# Altium integrated library Library.IntLib: 629 symbols (part 6 of 21)
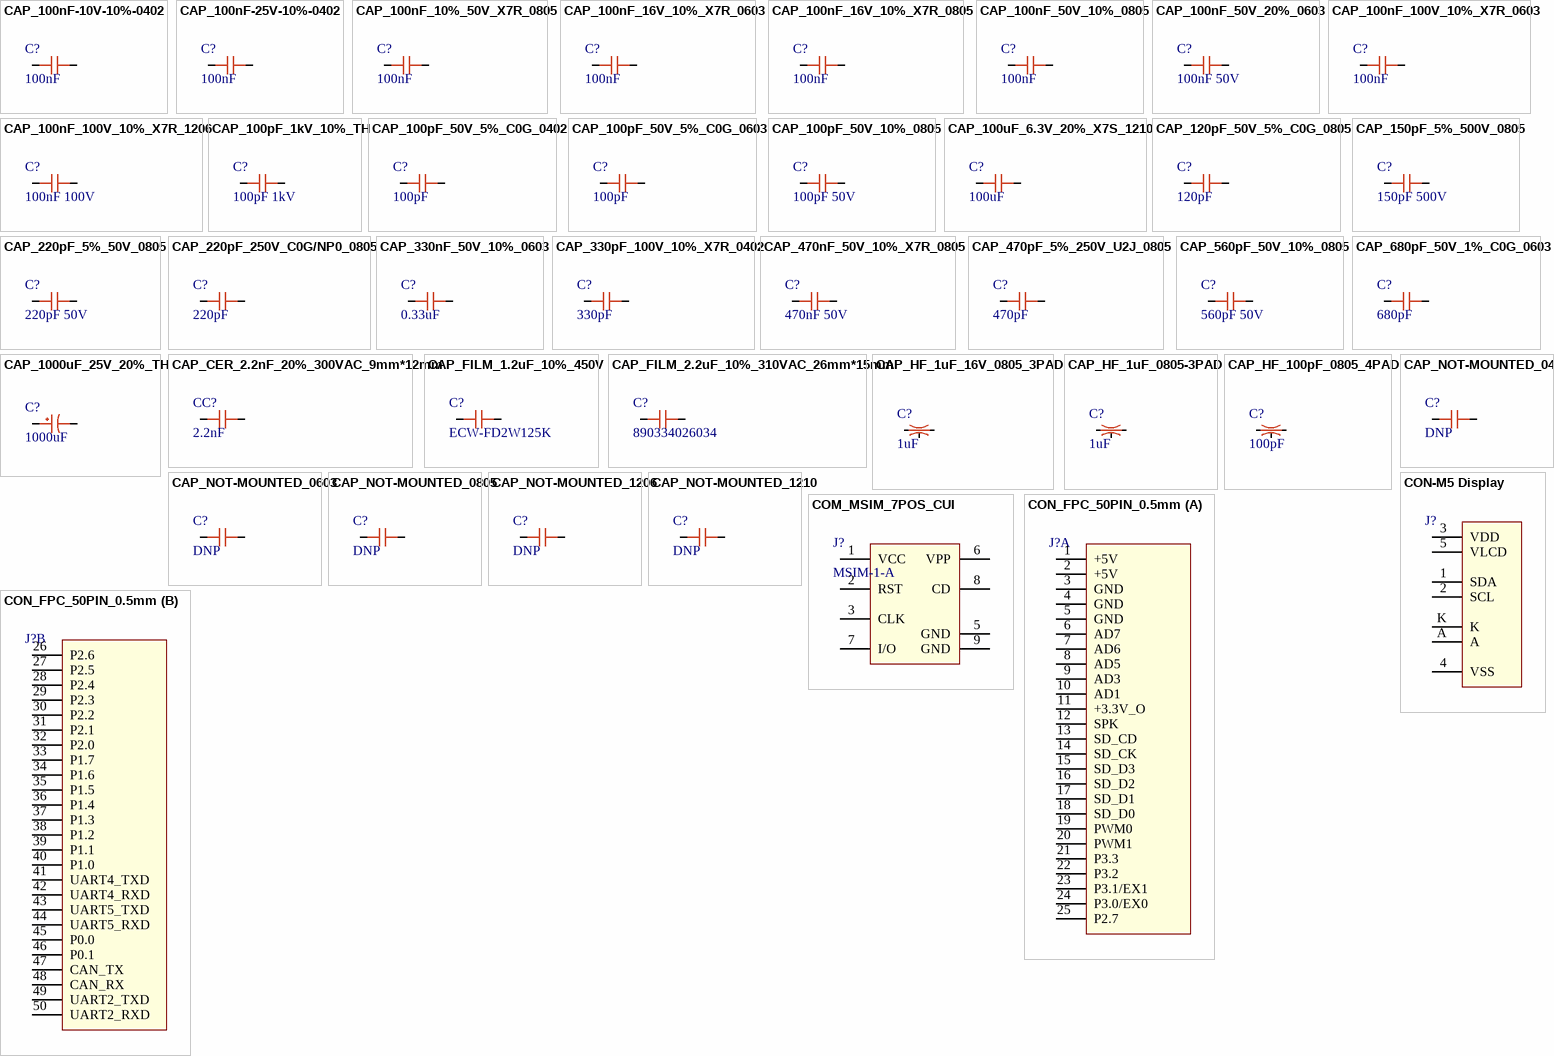
[diagram p23: symbols CAP_100nF-10V-10%-0402 to CON_FPC_50PIN_0.5mm]

## CAP_100pF_50V_5%_C0G_0402
designator C?, comment 100pF
Ceramic Capacitor, Multilayer, Ceramic, 50V, 5% +Tol, 5% -Tol, C0G, 30ppm/Cel TC, 0.0001uF, Surface Mount, 0402; Manufacturer: KEMET; Manufacturer Part Number: C0402C101J5GACTU; Multilayer: Yes; Supplier: Mouser; Supplier Part Number: 80-C0402C101J5G; RoHS: Yes; Category: Ceramic Capacitors; Stock: 496526; Pricing: 1=0.1, 10=0.014, 50=0.014, 100=0.008, 1000=0.006, 10000=0.004 (USD); Mounting Technology: Surface Mount; Pins: 2; Dielectric Material: Ceramic; Package Shape: Rectangular; Case/Package: 0402; Terminal Finish: Nickel; Min Operating Temperature: -55°C; Max Operating Temperature: 125°C; JESD-609 Code: e3; Value: 100pF; Capacitor Type: Ceramic; Tolerance  (fill in as +-): 5%; Package Style: SMTMeter; Packaging: Tape and Reel; Tolerance (fill in as +-): 5%; Rated DC Voltage (URdc): 50V; Temperature Characteristics Code: C0G; Termination: Wraparound; Length: 1mm; Width: 0.5mm; Height: 0.5mm; Reach SVHC Compliant: Yes; RoHS Compliant: Yes; ComponentLink1URL: https://datasheet.ciiva.com:443/pdfs/VipMasterIC/IC/KEME/KEME-S-A0007716602/KEME-S-A0007700906-1.pdf?src-supplier=IHS+Markit; ComponentLink1Description: https://datasheet.ciiva.com:443/pdfs/VipMasterIC/IC/KEME/KEME-S-A0007716602/KEME-S-A0007700906-1.pdf?src-supplier=IHS+Markit; ComponentLink2URL: https://datasheet.ciiva.com/144/docfinderpartnumber-c0402c101j5gactu-144103.pdf?src-supplier=Digikey; ComponentLink2Description: https://datasheet.ciiva.com/144/docfinderpartnumber-c0402c101j5gactu-144103.pdf?src-supplier=Digikey; ComponentLink3URL: https://datasheet.ciiva.com/11630/kem-c1003-c0g-smd-11630060.pdf?src-supplier=Avnet; ComponentLink3Description: https://datasheet.ciiva.com/11630/kem-c1003-c0g-smd-11630060.pdf?src-supplier=Avnet; ComponentLink4URL: https://datasheet.ciiva.com/26847/getdatasheetpartid-407344-26847338.pdf?src-supplier=Verical; ComponentLink4Description: https://datasheet.ciiva.com/26847/getdatasheetpartid-407344-26847338.pdf?src-supplier=Verical; ComponentLink5URL: https://datasheet.ciiva.com/7657/kem-c1003-c0g-smd-7657462.pdf?src-supplier=Element14; ComponentLink5Description: https://datasheet.ciiva.com/7657/kem-c1003-c0g-smd-7657462.pdf?src-supplier=Element14; ComponentLink6URL: https://datasheet.ciiva.com/7657/kem-c1003-c0g-smd-7657461.pdf?src-supplier=Element14; ComponentLink6Description: https://datasheet.ciiva.com/7657/kem-c1003-c0g-smd-7657461.pdf?src-supplier=Element14; ComponentLink7URL: https://datasheet.ciiva.com/28645/1789732-28645366.pdf?src-supplier=Element14; ComponentLink7Description: https://datasheet.ciiva.com/28645/1789732-28645366.pdf?src-supplier=Element14; ComponentLink8URL: https://datasheet.ciiva.com/14593/70095383-14593685.pdf?src-supplier=Allied+Electronics; ComponentLink8Description: https://datasheet.ciiva.com/14593/70095383-14593685.pdf?src-supplier=Allied+Electronics; ComponentLink9URL: https://datasheet.ciiva.com/5420/kem-c1003-c0g-smd-356956-5420997.pdf?src-supplier=Mouser; ComponentLink9Description: https://datasheet.ciiva.com/5420/kem-c1003-c0g-smd-356956-5420997.pdf?src-supplier=Mouser; ComponentLink10URL: https://datasheet.ciiva.com/14586/70095383-14586666.pdf?src-supplier=Allied+Electronics; ComponentLink10Description: https://datasheet.ciiva.com/14586/70095383-14586666.pdf?src-supplier=Allied+Electronics
footprint CAP_0402
pins: 1, 2

## CAP_100pF_50V_5%_C0G_0603
designator C?, comment 100pF
Ceramic Capacitor, Multilayer, Ceramic, 50V, 5% +Tol, 5% -Tol, C0G, 30ppm/Cel TC, 0.0001uF, Surface Mount, 0603; Manufacturer: KEMET; Manufacturer Part Number: C0603C101J5GACTU; Multilayer: Yes; Supplier: Digikey; Supplier Part Number: 399-C0603C101J5GAC7867CT-ND; RoHS: Yes; Category: Ceramic Capacitors; Stock: 200424; Pricing: 1=0.1, 10=0.073, 50=0.0418, 100=0.0325, 500=0.02442, 1000=0.01919 (USD); Mounting Technology: Surface Mount; Pins: 2; Dielectric Material: Ceramic; Package Shape: Rectangular; Case/Package: 0603; Terminal Finish: Nickel; Min Operating Temperature: -55°C; Max Operating Temperature: 125°C; JESD-609 Code: e3; Value: 100pF; Capacitor Type: Ceramic; Tolerance  (fill in as +-): 5%; Package Style: SMTMeter; Packaging: Tape and Reel; Tolerance (fill in as +-): 5%; Rated DC Voltage (URdc): 50V; Temperature Characteristics Code: C0G; Termination: Wraparound; Length: 1.6mm; Width: 0.8mm; Height: 0.8mm; Reach SVHC Compliant: Yes; RoHS Compliant: Yes; ComponentLink1URL: https://datasheet.ciiva.com:443/pdfs/VipMasterIC/IC/KEME/KEME-S-A0005605168/KEME-S-A0005605168-1.pdf?src-supplier=IHS+Markit; ComponentLink1Description: https://datasheet.ciiva.com:443/pdfs/VipMasterIC/IC/KEME/KEME-S-A0005605168/KEME-S-A0005605168-1.pdf?src-supplier=IHS+Markit; ComponentLink2URL: https://www.distrelec.biz/Web/Downloads/_t/ds/KEM_C1003_C0G_SMD_eng_tds.pdf?mime=application%2Fpdf&src-supplier=Distrelec; ComponentLink2Description: https://www.distrelec.biz/Web/Downloads/_t/ds/KEM_C1003_C0G_SMD_eng_tds.pdf?mime=application%2Fpdf&src-supplier=Distrelec; ComponentLink3URL: http://www.farnell.com/datasheets/2740958.pdf?src-supplier=Farnell; ComponentLink3Description: http://www.farnell.com/datasheets/2740958.pdf?src-supplier=Farnell; ComponentLink4URL: http://uk.rs-online.com/webdocs/1528/0900766b81528c98.pdf?src-supplier=Rs; ComponentLink4Description: http://uk.rs-online.com/webdocs/1528/0900766b81528c98.pdf?src-supplier=Rs
footprint CAP_0603
pins: 1, 2

## CAP_100pF_50V_10%_0805
designator C?, comment 100pF 50V
Ceramic Capacitor, Multilayer, Ceramic, 50V, 10% +Tol, 10% -Tol, C0G, -/+30ppm/Cel TC, 0.0001uF, Surface Mount, 0805; Manufacturer: KEMET; Manufacturer Part Number: C0805C101K5GACTU; Multilayer: Yes; Supplier: Mouser; Supplier Part Number: 80-C0805C101K5G; RoHS: Yes; Category: Ceramic Capacitors; Stock: 37552; Pricing: 1=0.1, 10=0.034, 50=0.034, 100=0.02, 1000=0.014, 10000=0.01 (USD); Mounting Technology: Surface Mount; Pins: 2; Dielectric Material: Ceramic; Package Shape: Rectangular; Case/Package: 0805; Terminal Finish: Nickel; Min Operating Temperature: -55°C; Max Operating Temperature: 125°C; JESD-609 Code: e3; Value: 100pF; Capacitor Type: Ceramic; Tolerance  (fill in as +-): 10%; Packaging: Tape and Reel; Tolerance (fill in as +-): 10%; Rated DC Voltage (URdc): 50V; Temperature Characteristics Code: C0G; Termination: Wraparound; Reach SVHC Compliant: Yes; RoHS Compliant: Yes; ComponentLink1URL: https://datasheet.ciiva.com:443/pdfs/VipMasterIC/IC/KEME/KEME-S-A0005985535/KEME-S-A0005985535-1.pdf?src-supplier=IHS+Markit; ComponentLink1Description: https://datasheet.ciiva.com:443/pdfs/VipMasterIC/IC/KEME/KEME-S-A0005985535/KEME-S-A0005985535-1.pdf?src-supplier=IHS+Markit; ComponentLink2URL: https://datasheet.ciiva.com/144/docfinderpartnumber-c0805c101k5gactu-144658.pdf?src-supplier=Digikey; ComponentLink2Description: https://datasheet.ciiva.com/144/docfinderpartnumber-c0805c101k5gactu-144658.pdf?src-supplier=Digikey; ComponentLink3URL: https://datasheet.ciiva.com/7842/kem-c1003-c0g-smd-7842517.pdf?src-supplier=Element14; ComponentLink3Description: https://datasheet.ciiva.com/7842/kem-c1003-c0g-smd-7842517.pdf?src-supplier=Element14; ComponentLink4URL: https://datasheet.ciiva.com/14589/70095383-14589565.pdf?src-supplier=Allied+Electronics; ComponentLink4Description: https://datasheet.ciiva.com/14589/70095383-14589565.pdf?src-supplier=Allied+Electronics; ComponentLink5URL: https://datasheet.ciiva.com/18444/70095383-18444347.pdf?src-supplier=Allied+Electronics; ComponentLink5Description: https://datasheet.ciiva.com/18444/70095383-18444347.pdf?src-supplier=Allied+Electronics
footprint CAP_0805
pins: 1, 2

## CAP_100uF_6.3V_20%_X7S_1210
designator C?, comment 100uF
Ceramic Capacitor, Multilayer, Ceramic, 6.3V, 20% +Tol, 20% -Tol, X7S, 22% TC, 100uF, Surface Mount, 1210; Manufacturer: Murata; Manufacturer Part Number: GRM32EC70J107ME15K; Supplier: Mouser; Supplier Part Number: 81-GRM32EC70J107ME5K; RoHS: No; Category: Ceramic Capacitors; Stock: 18465; Pricing: 1=0.61, 10=0.339, 50=0.339, 100=0.275, 1000=0.186, 10000=0.15 (USD); RoHS Compliant: Yes; ComponentLink1URL: https://datasheet.octopart.com/GRM32EC70J107ME15K-Murata-datasheet-149523525.pdf?src-supplier=Newark; ComponentLink1Description: https://datasheet.octopart.com/GRM32EC70J107ME15K-Murata-datasheet-149523525.pdf?src-supplier=Newark; ComponentLink2URL: https://datasheet.octopart.com/GRM32EC70J107ME15K-Murata-datasheet-165579666.pdf?src-supplier=TME; ComponentLink2Description: https://datasheet.octopart.com/GRM32EC70J107ME15K-Murata-datasheet-165579666.pdf?src-supplier=TME
footprint CAP_1210
pins: 1, 2

## CAP_120pF_50V_5%_C0G_0805
designator C?, comment 120pF
Ceramic Capacitor, Multilayer, Ceramic, 50V, 5% +Tol, 5% -Tol, C0G, 30ppm/Cel TC, 0.00012uF, Surface Mount, 0805; Manufacturer: KEMET; Manufacturer Part Number: C0805C121J5GACTU; Multilayer: Yes; Supplier: Farnell; Supplier Part Number: 1414667; RoHS: Yes; Category: Ceramic Capacitors; Stock: 9198; Pricing: 10=0.039, 100=0.024, 500=0.02, 1000=0.016, 2000=0.014 (EUR); Mounting Technology: Surface Mount; Pins: 2; Dielectric Material: Ceramic; Case/Package: 0805; Terminal Finish: Nickel; Package Shape: Rectangular; Min Operating Temperature: -55°C; Max Operating Temperature: 125°C; JESD-609 Code: e3; Value: 120pF; Capacitor Type: Ceramic; Tolerance  (fill in as +-): 5%; Package Style: SMTMeter; Packaging: Tape and Reel; Tolerance (fill in as +-): 5%; Rated DC Voltage (URdc): 50V; Temperature Characteristics Code: C0G; Termination: Wraparound; Length: 2mm; Width: 1.25mm; Height: 0.78mm; Reach SVHC Compliant: Yes; RoHS Compliant: Yes; ComponentLink1URL: https://datasheet.ciiva.com:443/pdfs/VipMasterIC/IC/KEME/KEME-S-A0005605168/KEME-S-A0005605168-1.pdf?src-supplier=IHS+Markit; ComponentLink1Description: https://datasheet.ciiva.com:443/pdfs/VipMasterIC/IC/KEME/KEME-S-A0005605168/KEME-S-A0005605168-1.pdf?src-supplier=IHS+Markit; ComponentLink2URL: https://datasheet.ciiva.com/7842/kem-c1003-c0g-smd-7842206.pdf?src-supplier=Element14; ComponentLink2Description: https://datasheet.ciiva.com/7842/kem-c1003-c0g-smd-7842206.pdf?src-supplier=Element14; ComponentLink3URL: https://datasheet.ciiva.com/7842/f9080b-0402-series-c0g-7842555.pdf?src-supplier=Element14; ComponentLink3Description: https://datasheet.ciiva.com/7842/f9080b-0402-series-c0g-7842555.pdf?src-supplier=Element14; ComponentLink4URL: https://datasheet.ciiva.com/7842/kem-c1003-c0g-smd-7842205.pdf?src-supplier=Element14; ComponentLink4Description: https://datasheet.ciiva.com/7842/kem-c1003-c0g-smd-7842205.pdf?src-supplier=Element14; ComponentLink5URL: https://datasheet.ciiva.com/14589/70095383-14589453.pdf?src-supplier=Allied+Electronics; ComponentLink5Description: https://datasheet.ciiva.com/14589/70095383-14589453.pdf?src-supplier=Allied+Electronics; ComponentLink6URL: https://datasheet.ciiva.com/5412/kem-c1003-c0g-smd-5412953.pdf?src-supplier=Mouser; ComponentLink6Description: https://datasheet.ciiva.com/5412/kem-c1003-c0g-smd-5412953.pdf?src-supplier=Mouser
footprint CAP_0805
pins: 1, 2

## CAP_150pF_5%_500V_0805
designator C?, comment 150pF 500V
Ceramic Capacitor, Multilayer, Ceramic, 500V, 5% +Tol, 5% -Tol, C0G, 30ppm/Cel TC, 0.00015uF, Surface Mount, 0805; Manufacturer: Yageo; Manufacturer Part Number: CC0805JRNPOBBN151; Multilayer: Yes; Supplier: Digikey; Supplier Part Number: 311-4256-1-ND; RoHS: Yes; Category: Ceramic Capacitors; Stock: 18030; Pricing: 1=0.16, 10=0.109, 50=0.0652, 100=0.0513, 500=0.0379, 1000=0.03137 (USD); Mounting Technology: Surface Mount; Pins: 2; Dielectric Material: Ceramic; Package Shape: Rectangular; Case/Package: 0805; Terminal Finish: Nickel; Min Operating Temperature: -55°C; Max Operating Temperature: 125°C; JESD-609 Code: e3; Value: 150pF; Capacitor Type: Ceramic; Tolerance  (fill in as +-): 5%; Package Style: SMTMeter; Packaging: Tape and Reel; Tolerance (fill in as +-): 5%; Rated DC Voltage (URdc): 500V; Temperature Characteristics Code: C0G; Termination: Wraparound; Length: 2mm; Width: 1.25mm; Height: 0.6mm; Reach SVHC Compliant: Yes; RoHS Compliant: Yes; ComponentLink1URL: https://datasheet.ciiva.com:443/pdfs/VipMasterIC/IC/YAGO/YAGO-S-A0003556389/YAGO-S-A0003556389-1.pdf?src-supplier=IHS+Markit; ComponentLink1Description: https://datasheet.ciiva.com:443/pdfs/VipMasterIC/IC/YAGO/YAGO-S-A0003556389/YAGO-S-A0003556389-1.pdf?src-supplier=IHS+Markit; ComponentLink2URL: https://datasheet.ciiva.com/13264/upy-gp-np0-16v-to-50v-8-3714-13264636.pdf?src-supplier=Mouser; ComponentLink2Description: https://datasheet.ciiva.com/13264/upy-gp-np0-16v-to-50v-8-3714-13264636.pdf?src-supplier=Mouser; ComponentLink3URL: https://datasheet.ciiva.com/11587/upy-np0x7r-mv-100-to-630v-9-11587199.pdf?src-supplier=Avnet; ComponentLink3Description: https://datasheet.ciiva.com/11587/upy-np0x7r-mv-100-to-630v-9-11587199.pdf?src-supplier=Avnet
footprint CAP_0805
pins: 1, 2

## CAP_220pF_5%_50V_0805
designator C?, comment 220pF 50V
Ceramic Capacitor, Multilayer, Ceramic, 50V, 5% +Tol, 5% -Tol, C0G, 30ppm/Cel TC, 0.00022uF, Surface Mount, 0805; Manufacturer: Yageo; Manufacturer Part Number: CC0805JRNPO9BN221; Multilayer: Yes; Supplier: Rs; Supplier Part Number: 1988037; RoHS: Yes; Category: Ceramic Capacitors; Stock: 4400; Pricing: 200=0.019, 1000=0.011, 2000=0.01 (EUR); Mounting Technology: Surface Mount; Pins: 2; Dielectric Material: Ceramic; Package Shape: Rectangular; Case/Package: 0805; Terminal Finish: Nickel; Min Operating Temperature: -55°C; Max Operating Temperature: 125°C; JESD-609 Code: e3; Value: 220pF; Capacitor Type: Ceramic; Tolerance  (fill in as +-): 5%; Package Style: SMTMeter; Packaging: Tape and Reel; Tolerance (fill in as +-): 5%; Rated DC Voltage (URdc): 50V; Temperature Characteristics Code: C0G; Termination: Wraparound; Length: 2mm; Width: 1.25mm; Height: 0.6mm; Reach SVHC Compliant: Yes; RoHS Compliant: Yes; ComponentLink1URL: https://datasheet.ciiva.com:443/pdfs/VipMasterIC/IC/YAGO/YAGO-S-A0009251638/YAGO-S-A0009251638-1.pdf?src-supplier=IHS+Markit; ComponentLink1Description: https://datasheet.ciiva.com:443/pdfs/VipMasterIC/IC/YAGO/YAGO-S-A0009251638/YAGO-S-A0009251638-1.pdf?src-supplier=IHS+Markit; ComponentLink2URL: https://datasheet.ciiva.com/11464/upy-gp-np0-16v-to-50v-8-11464746.pdf?src-supplier=Avnet; ComponentLink2Description: https://datasheet.ciiva.com/11464/upy-gp-np0-16v-to-50v-8-11464746.pdf?src-supplier=Avnet; ComponentLink3URL: https://datasheet.ciiva.com/8033/1443161-8033935.pdf?src-supplier=Element14; ComponentLink3Description: https://datasheet.ciiva.com/8033/1443161-8033935.pdf?src-supplier=Element14; ComponentLink4URL: https://datasheet.ciiva.com/144/mlccorderingcode-144935.pdf?src-supplier=Digikey; ComponentLink4Description: https://datasheet.ciiva.com/144/mlccorderingcode-144935.pdf?src-supplier=Digikey; ComponentLink5URL: https://datasheet.ciiva.com/144/mlccorderingcode-144936.pdf?src-supplier=Digikey; ComponentLink5Description: https://datasheet.ciiva.com/144/mlccorderingcode-144936.pdf?src-supplier=Digikey; ComponentLink6URL: https://datasheet.ciiva.com/144/mlccorderingcode-144937.pdf?src-supplier=Digikey; ComponentLink6Description: https://datasheet.ciiva.com/144/mlccorderingcode-144937.pdf?src-supplier=Digikey
footprint CAP_0805
pins: 1, 2

## CAP_220pF_250V_C0G/NP0_0805
designator C?, comment 220pF
Cap Cer 220PF 250V C0G/NP0 0805; Manufacturer: Johanson; Manufacturer Part Number: QSCT251Q221J1GV001E; Supplier: Digikey; Supplier Part Number: 712-QSCT251Q221J1GV001ECT-ND; RoHS: No; Category: Ceramic Capacitors; Stock: 137812; Pricing: 1=0.47, 10=0.284, 100=0.1901, 1000=0.1412 (USD)
footprint RES_0805
pins: 1, 2

## CAP_330nF_50V_10%_0603
designator C?, comment 0.33uF
Ceramic Capacitor, Multilayer, Ceramic, 50V, 10% +Tol, 10% -Tol, X7R, 15% TC, 0.33uF, Surface Mount, 0603; Manufacturer: TDK; Manufacturer Part Number: CGA3E3X7R1H334K080AB; Value: 330nF; Multilayer: Yes; Reference Standard: AEC-Q200; Supplier: Farnell; Supplier Part Number: 3416368; RoHS: Yes; Category: Ceramic Capacitors; Stock: 64881; Pricing: 10=0.137, 100=0.0862, 500=0.0714, 1000=0.0566, 2000=0.0467, 4000=0.0367 (EUR); Mounting Technology: Surface Mount; Pins: 2; Dielectric Material: Ceramic; Package Shape: Rectangular; Case/Package: 0603; Terminal Finish: Nickel; Min Operating Temperature: -55°C; Max Operating Temperature: 125°C; JESD-609 Code: e3; Capacitor Type: Ceramic; Tolerance  (fill in as +-): 10%; Package Style: SMTMeter; Packaging: Tape and Reel; Tolerance (fill in as +-): 10%; Rated DC Voltage (URdc): 50V; Temperature Characteristics Code: X7R; Termination: Wraparound; Length: 1.6mm; Width: 0.8mm; Height: 0.8mm; Reach SVHC Compliant: Yes; RoHS Compliant: Yes; ComponentLink1URL: https://datasheet.ciiva.com:443/pdfs/VipMasterIC/IC/TDKC/TDKC-S-A0008953915/TDKC-S-A0008953915-1.pdf?src-supplier=IHS+Markit; ComponentLink1Description: https://datasheet.ciiva.com:443/pdfs/VipMasterIC/IC/TDKC/TDKC-S-A0008953915/TDKC-S-A0008953915-1.pdf?src-supplier=IHS+Markit; ComponentLink2URL: http://www.mouser.com/ds/2/400/lcc_automotive_general_en-843974.pdf?src-supplier=Mouser; ComponentLink2Description: http://www.mouser.com/ds/2/400/lcc_automotive_general_en-843974.pdf?src-supplier=Mouser; ComponentLink3URL: https://product.tdk.com/info/en/catalog/datasheets/mlcc_automotive_general_en.pdf?src-supplier=Digikey; ComponentLink3Description: https://product.tdk.com/info/en/catalog/datasheets/mlcc_automotive_general_en.pdf?src-supplier=Digikey; ComponentLink4URL: https://product.tdk.com/info/en/documents/chara_sheet/CGA3E3X7R1H334K080AB.pdf?src-supplier=Digikey; ComponentLink4Description: https://product.tdk.com/info/en/documents/chara_sheet/CGA3E3X7R1H334K080AB.pdf?src-supplier=Digikey; ComponentLink5URL: http://product.tdk.com/capacitor/mlcc/class/print_detail_pdf.php?lang=en&part_no=CGA3E3X7R1H334K080AB&src-supplier=Avnet; ComponentLink5Description: http://product.tdk.com/capacitor/mlcc/class/print_detail_pdf.php?lang=en&part_no=CGA3E3X7R1H334K080AB&src-supplier=Avnet; ComponentLink6URL: https://datasheet.octopart.com/CGA3E3X7R1H334K080AB-TDK-datasheet-165583812.pdf?src-supplier=TME; ComponentLink6Description: https://datasheet.octopart.com/CGA3E3X7R1H334K080AB-TDK-datasheet-165583812.pdf?src-supplier=TME
footprint CAP_0603
pins: 1, 2

## CAP_330pF_100V_10%_X7R_0402
designator C?, comment 330pF
Ceramic Capacitor, Multilayer, Ceramic, 100V, 10% +Tol, 10% -Tol, X7R, 15% TC, 0.00033uF, Surface Mount, 0402; Manufacturer: Taiyo Yuden; Manufacturer Part Number: HMK105B7331KV-F; Supplier: Digikey; Supplier Part Number: 587-4987-1-ND; RoHS: Yes; Category: Ceramic Capacitors; Stock: 17298; Pricing: 1=0.2, 10=0.116, 100=0.0724, 1000=0.0501, 2500=0.04456, 5000=0.04123 (USD); Pins: 2; Dielectric Material: Ceramic; Capacitor Type: Ceramic; RoHS Compliant: Yes; Reach SVHC Compliant: Yes; ComponentLink1URL: https://datasheet.ciiva.com:443/pdfs/VipMasterIC/IC/TAIY/TAIY-S-A0009099504/TAIY-S-A0009099053-1.pdf?src-supplier=IHS+Markit; ComponentLink1Description: https://datasheet.ciiva.com:443/pdfs/VipMasterIC/IC/TAIY/TAIY-S-A0009099504/TAIY-S-A0009099053-1.pdf?src-supplier=IHS+Markit; ComponentLink2URL: http://ds.yuden.co.jp/TYCOMPAS/ut/detail.do?productNo=HMK105B7331KV-F&fileName=HMK105B7331KV-F_SS&mode=specSheetDownload&src-supplier=Digikey; ComponentLink2Description: http://ds.yuden.co.jp/TYCOMPAS/ut/detail.do?productNo=HMK105B7331KV-F&fileName=HMK105B7331KV-F_SS&mode=specSheetDownload&src-supplier=Digikey
footprint CAP_0402
pins: 1, 2

## CAP_470nF_50V_10%_X7R_0805
designator C?, comment 470nF 50V
Ceramic Capacitor, Multilayer, Ceramic, 50V, 10% +Tol, 10% -Tol, X7R, 15% TC, 0.47uF, Surface Mount, 0805; Manufacturer: KEMET; Manufacturer Part Number: C0805C474K5RACTU; Multilayer: Yes; Supplier: Digi-Key; Supplier Part Number: 399-C0805C474K5RAC7800CT-ND; RoHS: Yes; Category: Ceramic Capacitors; Stock: 215288; Pricing: 1=0.28, 10=0.183, 50=0.1284, 100=0.1037, 500=0.07708, 1000=0.06745 (USD); Mounting Technology: Surface Mount; Pins: 2; Dielectric Material: Ceramic; Package Shape: Rectangular; Case/Package: 0805; Terminal Finish: Nickel; Min Operating Temperature: -55°C; Max Operating Temperature: 125°C; JESD-609 Code: e3; Value: 470nF; Capacitor Type: Ceramic; Tolerance  (fill in as +-): 10%; Package Style: SMTMeter; Packaging: Tape and Reel; Tolerance (fill in as +-): 10%; Rated DC Voltage (URdc): 50V; Temperature Characteristics Code: X7R; Termination: Wraparound; Length: 2mm; Width: 1.25mm; Height: 1mm; Reach SVHC Compliant: Yes; RoHS Compliant: Yes; ComponentLink1URL: https://datasheet.ciiva.com:443/pdfs/VipMasterIC/IC/KEME/KEME-S-A0008991654/KEME-S-A0008991654-1.pdf?src-supplier=IHS+Markit; ComponentLink1Description: https://datasheet.ciiva.com:443/pdfs/VipMasterIC/IC/KEME/KEME-S-A0008991654/KEME-S-A0008991654-1.pdf?src-supplier=IHS+Markit; ComponentLink2URL: https://datasheet.ciiva.com/7842/1851736-7842613.pdf?src-supplier=Element14; ComponentLink2Description: https://datasheet.ciiva.com/7842/1851736-7842613.pdf?src-supplier=Element14; ComponentLink3URL: https://datasheet.ciiva.com/6126/kem-c1002-x7r-smd-6126343.pdf?src-supplier=Farnell; ComponentLink3Description: https://datasheet.ciiva.com/6126/kem-c1002-x7r-smd-6126343.pdf?src-supplier=Farnell; ComponentLink4URL: https://datasheet.ciiva.com/28614/1918693-28614762.pdf?src-supplier=Element14; ComponentLink4Description: https://datasheet.ciiva.com/28614/1918693-28614762.pdf?src-supplier=Element14; ComponentLink5URL: https://datasheet.ciiva.com/28688/1851736-28688678.pdf?src-supplier=Element14; ComponentLink5Description: https://datasheet.ciiva.com/28688/1851736-28688678.pdf?src-supplier=Element14
footprint CAP_0805
pins: 1, 2

## CAP_470pF_5%_250V_U2J_0805
designator C?, comment 470pF
Ceramic Capacitor, Multilayer, Ceramic, 250V, 5% +Tol, 5% -Tol, U2J, -750+/-120ppm/Cel TC, 0.00047uF, Surface Mount, 0805; Manufacturer: Murata; Manufacturer Part Number: GRM21A7U2E471JW31D; Multilayer: Yes; Supplier: Farnell; Supplier Part Number: 3784452; RoHS: Yes; Category: Ceramic Capacitors; Stock: 400; Pricing: 10=0.147, 100=0.0954, 500=0.0668, 1000=0.0601, 2000=0.0525, 4000=0.0449 (EUR); Mounting Technology: Surface Mount; Pins: 2; Dielectric Material: Ceramic; Package Shape: Rectangular; Case/Package: 0805; Terminal Finish: Nickel; Min Operating Temperature: -55°C; Max Operating Temperature: 125°C; JESD-609 Code: e3; Value: 470pF; Capacitor Type: Ceramic; Tolerance  (fill in as +-): 5%; Package Style: SMTMeter; Packaging: Tape and Reel; Tolerance (fill in as +-): 5%; Rated DC Voltage (URdc): 250V; Temperature Characteristics Code: U2J; Termination: Wraparound; Length: 2mm; Width: 1.25mm; Height: 1mm; Reach SVHC Compliant: Yes; RoHS Compliant: Yes; ComponentLink1URL: https://datasheet.ciiva.com:443/pdfs/VipMasterIC/IC/MURE/MURE-S-A0004389965/MURE-S-A0004390104-1.pdf?src-supplier=IHS+Markit; ComponentLink1Description: https://datasheet.ciiva.com:443/pdfs/VipMasterIC/IC/MURE/MURE-S-A0004389965/MURE-S-A0004390104-1.pdf?src-supplier=IHS+Markit; ComponentLink2URL: https://datasheet.ciiva.com/6270/partnumbering-e-01-6270406.pdf?src-supplier=Digikey; ComponentLink2Description: https://datasheet.ciiva.com/6270/partnumbering-e-01-6270406.pdf?src-supplier=Digikey; ComponentLink3URL: https://datasheet.ciiva.com/6270/partnumbering-e-01-6270408.pdf?src-supplier=Digikey; ComponentLink3Description: https://datasheet.ciiva.com/6270/partnumbering-e-01-6270408.pdf?src-supplier=Digikey; ComponentLink4URL: https://datasheet.ciiva.com/6270/partnumbering-e-01-6270409.pdf?src-supplier=Digikey; ComponentLink4Description: https://datasheet.ciiva.com/6270/partnumbering-e-01-6270409.pdf?src-supplier=Digikey
footprint CAP_0805
pins: 1, 2

## CAP_560pF_50V_10%_0805
designator C?, comment 560pF 50V
Cap Cer 0805 560PF 50V Ultra Sta; Manufacturer: KEMET; Manufacturer Part Number: C0805C561K5HAC7800; Supplier: Digikey; Supplier Part Number: 399-C0805C561K5HAC7800CT-ND; RoHS: No; Category: Ceramic Capacitors; Stock: 11018; Pricing: 1=0.1, 10=0.051, 50=0.0346, 100=0.0298, 500=0.02156, 1000=0.01899 (USD)
footprint CAP_0805
pins: 1, 2

## CAP_680pF_50V_1%_C0G_0603
designator C?, comment 680pF
Ceramic Capacitor, Multilayer, Ceramic, 50V, 1% +Tol, 1% -Tol, C0G, 30ppm/Cel TC, 0.00068uF, Surface Mount, 0603; Manufacturer: KEMET; Manufacturer Part Number: C0603C681F5GACTU; Multilayer: Yes; Supplier: Arrow Electronics; Supplier Part Number: C0603C681F5GACTU; RoHS: Yes; Category: Ceramic Capacitors; Stock: 2375; Pricing: 1=0.22, 10=0.2167, 25=0.2133, 100=0.2099, 250=0.2065, 500=0.2031, 1000=0.1997 (USD); Mounting Technology: Surface Mount; Pins: 2; Dielectric Material: Ceramic; Package Shape: Rectangular; Case/Package: 0603; Terminal Finish: Nickel; Min Operating Temperature: -55°C; Max Operating Temperature: 125°C; JESD-609 Code: e3; Value: 680pF; Capacitor Type: Ceramic; Tolerance  (fill in as +-): 1%; Package Style: SMTMeter; Packaging: Tape and Reel; Tolerance (fill in as +-): 1%; Rated DC Voltage (URdc): 50V; Temperature Characteristics Code: C0G; Termination: Wraparound; Length: 1.6mm; Width: 0.8mm; Height: 0.8mm; Reach SVHC Compliant: Yes; RoHS Compliant: Yes; ComponentLink1URL: https://datasheet.ciiva.com:443/pdfs/VipMasterIC/IC/KEME/KEME-S-A0005605168/KEME-S-A0005605168-1.pdf?src-supplier=IHS+Markit; ComponentLink1Description: https://datasheet.ciiva.com:443/pdfs/VipMasterIC/IC/KEME/KEME-S-A0005605168/KEME-S-A0005605168-1.pdf?src-supplier=IHS+Markit; ComponentLink2URL: http://www.mouser.com/ds/2/212/KEM_C1003_C0G_SMD-1101588.pdf?src-supplier=Mouser; ComponentLink2Description: http://www.mouser.com/ds/2/212/KEM_C1003_C0G_SMD-1101588.pdf?src-supplier=Mouser; ComponentLink3URL: http://components.arrow.com/part/dataview/40910618S9506003N7429?src-supplier=Arrow+Electronics; ComponentLink3Description: http://components.arrow.com/part/dataview/40910618S9506003N7429?src-supplier=Arrow+Electronics; ComponentLink4URL: http://www.farnell.com/datasheets/2746302.pdf?src-supplier=Farnell; ComponentLink4Description: http://www.farnell.com/datasheets/2746302.pdf?src-supplier=Farnell; ComponentLink5URL: https://api.kemet.com/component-edge/download/datasheet/C0603C681F5GACTU.pdf?src-supplier=Digikey; ComponentLink5Description: https://api.kemet.com/component-edge/download/datasheet/C0603C681F5GACTU.pdf?src-supplier=Digikey; ComponentLink6URL: https://search.kemet.com/component-edge/download/datasheet/C0603C681F5GACTU.pdf?src-supplier=Digikey; ComponentLink6Description: https://search.kemet.com/component-edge/download/datasheet/C0603C681F5GACTU.pdf?src-supplier=Digikey; ComponentLink7URL: https://datasheet.octopart.com/C0603C681F5GACTU-KEMET-datasheet-149522270.pdf?src-supplier=Farnell; ComponentLink7Description: https://datasheet.octopart.com/C0603C681F5GACTU-KEMET-datasheet-149522270.pdf?src-supplier=Farnell; ComponentLink8URL: http://capacitoredge.kemet.com/capedge2/DataSheet?pn=C0603C681F5GAC7867&src-supplier=Avnet; ComponentLink8Description: http://capacitoredge.kemet.com/capedge2/DataSheet?pn=C0603C681F5GAC7867&src-supplier=Avnet; ComponentLink9URL: https://datasheet.octopart.com/C0603C681F5GACTU-KEMET-datasheet-157246123.pdf?src-supplier=Electro+Sonic; ComponentLink9Description: https://datasheet.octopart.com/C0603C681F5GACTU-KEMET-datasheet-157246123.pdf?src-supplier=Electro+Sonic
footprint CAP_0603
pins: 1, 2

## CAP_1000uF_25V_20%_TH
designator C?, comment 1000uF
Aluminum Electrolytic Capacitor, Polarized, Aluminum (wet), 25V, 20% +Tol, 20% -Tol, 1000uF; Manufacturer: Rubycon; Manufacturer Part Number: 25PX1000MEFCT810X16; Manufacturer Series: PX; Dielectric Material: Aluminium; Value: 1mF; Ripple Current: 740mA; Supplier: Farnell; Supplier Part Number: 2346582; RoHS: Yes; Category: Aluminum Electrolytic Capacitors; Stock: 998; Pricing: 1=0.387, 50=0.269, 100=0.241, 250=0.223, 500=0.208, 1000=0.187 (EUR); Pins: 2; Min Operating Temperature: -55°C; Max Operating Temperature: 105°C; Polarity: Polarized; Capacitor Type: Aluminium; Tolerance  (fill in as +-): 20%; Package Style: RadialMeter; Packaging: Tape and Reel; Tolerance (fill in as +-): 20%; Rated DC Voltage (URdc): 25V; Series: PX; Diameter: 10mm; Length: 16mm; Terminal Pitch: 5mm; Reach SVHC Compliant: Yes; RoHS Compliant: Yes; ComponentLink1URL: https://datasheet.ciiva.com:443/pdfs/VipMasterIC/IC/RUBY/RUBY-S-A0001237875/RUBY-S-A0001237875-1.pdf?src-supplier=IHS+Markit; ComponentLink1Description: https://datasheet.ciiva.com:443/pdfs/VipMasterIC/IC/RUBY/RUBY-S-A0001237875/RUBY-S-A0001237875-1.pdf?src-supplier=IHS+Markit; ComponentLink2URL: https://datasheet.ciiva.com/6298/e-px-6298646.pdf?src-supplier=Digikey; ComponentLink2Description: https://datasheet.ciiva.com/6298/e-px-6298646.pdf?src-supplier=Digikey; ComponentLink3URL: https://datasheet.ciiva.com/6298/e-px-6298647.pdf?src-supplier=Digikey; ComponentLink3Description: https://datasheet.ciiva.com/6298/e-px-6298647.pdf?src-supplier=Digikey; ComponentLink4URL: https://datasheet.ciiva.com/22732/1909360-22732535.pdf?src-supplier=Element14; ComponentLink4Description: https://datasheet.ciiva.com/22732/1909360-22732535.pdf?src-supplier=Element14
pins: 1, 2

## CAP_CER_2.2nF_20%_300VAC_9mm*12mm
designator CC?, comment 2.2nF
Ceramic Capacitor, Ceramic, 20% +Tol, 20% -Tol, E, -55/+20% TC, 0.0022uF, Through Hole Mount, 3528; Manufacturer: Murata; Manufacturer Part Number: DE6E3KJ222MN3A; Manufacturer Series: DE; Multilayer: No; Rated AC Voltage (URac): 300V; Reference Standard: IEC60384-14; Supplier: Future Electronics; Supplier Part Number: 5078096; RoHS: Yes; Category: Ceramic Capacitors; Stock: 700; Pricing: 700=0.134, 2100=0.13, 3500=0.128, 7000=0.125, 14000=0.121 (USD); Mounting Technology: Through Hole; Pins: 2; Dielectric Material: Ceramic; Package Shape: Disk; Case/Package: 3528; Min Operating Temperature: -25°C; Max Operating Temperature: 85°C; Value: 2.2nF; Capacitor Type: Ceramic; Tolerance  (fill in as +-): 20%; Package Style: RadialMeter; Packaging: Ammo Pack; Tolerance (fill in as +-): 20%; Series: DE6; Temperature Characteristics Code: E; Termination: Wire; Length: 9mm; Width: 7mm; Height: 12mm; Terminal Pitch: 7.5mm; Reach SVHC Compliant: Yes; RoHS Compliant: Yes; ComponentLink1URL: https://datasheet.ciiva.com:443/pdfs/VipMasterIC/IC/MURE/MURED00572/MURED00572-1.pdf?src-supplier=IHS+Markit; ComponentLink1Description: https://datasheet.ciiva.com:443/pdfs/VipMasterIC/IC/MURE/MURED00572/MURED00572-1.pdf?src-supplier=IHS+Markit; ComponentLink2URL: https://datasheet.ciiva.com/12550/product-12550352.pdf?src-supplier=Mouser; ComponentLink2Description: https://datasheet.ciiva.com/12550/product-12550352.pdf?src-supplier=Mouser; ComponentLink3URL: https://datasheet.ciiva.com/29535/c85e-29535785.pdf?src-supplier=Digikey; ComponentLink3Description: https://datasheet.ciiva.com/29535/c85e-29535785.pdf?src-supplier=Digikey
footprint CAP_CER_7.5mm-9mm dia
pins: 1, 2

## CAP_FILM_1.2uF_10%_450V
designator C?, comment ECW-FD2W125K
Cap Film 1.2uF 450V PP 10% (17.5 X 8.5 X 11.6mm) Radial 15mm 110C Bulk; Manufacturer: Panasonic; Supplier: Mouser; Supplier Part Number: 667-ECW-FD2W125K; Manufacturer Part Number: ECW-FD2W125K; RoHS: Yes; Category: Film Capacitors; Stock: 1097; Pricing: 1=0.8, 10=0.479, 50=0.479, 100=0.389, 1000=0.268, 10000=0.238 (USD); ComponentLink1URL: https://datasheet.ciiva.com/15908/abd0000ce52-15908760.pdf?src-supplier=Onlinecomponents.com; ComponentLink1Description: https://datasheet.ciiva.com/15908/abd0000ce52-15908760.pdf?src-supplier=Onlinecomponents.com
footprint CAP_FILM_15mm_17.5mm_8.5mm
pins: 1, 2

## CAP_FILM_2.2uF_10%_310VAC_26mm*15mm
designator C?, comment 890334026034
2.2 µF Film Capacitor 310V Polypropylene (PP), Metallized Radial; Manufacturer: Wurth Electronics; Supplier: Rs; Supplier Part Number: 1229863; Manufacturer Part Number: 890334026034; RoHS: Yes; Category: Film Capacitors; Stock: 110; Pricing: 10=2.883, 100=2.142 (EUR); Pins: 2; Capacitor Type: FILM; Manufacturer Series: 890334026034; Reach SVHC Compliant: Yes; RoHS Compliant: Yes; ComponentLink1URL: https://datasheet.ciiva.com:443/pdfs/VipMasterIC/IC/MIDC/MIDC-S-A0000770720/MIDC-S-A0000770875-1.pdf?src-supplier=IHS+Markit; ComponentLink1Description: https://datasheet.ciiva.com:443/pdfs/VipMasterIC/IC/MIDC/MIDC-S-A0000770720/MIDC-S-A0000770875-1.pdf?src-supplier=IHS+Markit; ComponentLink2URL: http://www.farnell.com/datasheets/1867951.pdf?src-supplier=Farnell; ComponentLink2Description: http://www.farnell.com/datasheets/1867951.pdf?src-supplier=Farnell; ComponentLink3URL: https://katalog.we-online.de/pbs/datasheet/890334026034.pdf?src-supplier=Digikey; ComponentLink3Description: https://katalog.we-online.de/pbs/datasheet/890334026034.pdf?src-supplier=Digikey; ComponentLink4URL: http://www.farnell.com/datasheets/1867951.pdf?src-supplier=Element14; ComponentLink4Description: http://www.farnell.com/datasheets/1867951.pdf?src-supplier=Element14; ComponentLink5URL: http://www.farnell.com/datasheets/1867951.pdf?src-supplier=Newark; ComponentLink5Description: http://www.farnell.com/datasheets/1867951.pdf?src-supplier=Newark
footprint CAP_Film_22.5mm
pins: 1, 2

## CAP_HF_1uF_16V_0805_3PAD
designator C?, comment 1uF
Feed Through Capacitor, 1 Function(s), 16V, 4A, 3 Pin(s); Manufacturer: Murata; Manufacturer Part Number: NFM21PC105B1C3D; Value: 1F; Insulation Resistance-Min: 500MR; Channels: 1; Supplier: Farnell; Supplier Part Number: 1686517; RoHS: Yes; Category: Ceramic Capacitors; Stock: 9859; Pricing: 10=0.154, 100=0.119, 500=0.109, 1000=0.0993, 2000=0.0859, 4000=0.0725 (EUR); Mounting Technology: Surface Mount; Terminal Finish: Tin; Min Operating Temperature: -40°C; Max Operating Temperature: 85°C; JESD-609 Code: e3; Filter Type: FEED THROUGH CAPACITOR; Packaging: Tape and Reel; Current Rating: 4A; Voltage Rating: 16V; Length: 2mm; Width: 1.25mm; Height: 0.85mm; Reach SVHC Compliant: Yes; RoHS Compliant: Yes; ComponentLink1URL: https://psearch.en.murata.com:443/capacitor/product/NFM21PC105B1C3%23.pdf?src-supplier=IHS+Markit; ComponentLink1Description: https://psearch.en.murata.com:443/capacitor/product/NFM21PC105B1C3%23.pdf?src-supplier=IHS+Markit; ComponentLink2URL: https://datasheet.ciiva.com/11795/0900766b80af73fd-11795509.pdf?src-supplier=Rs; ComponentLink2Description: https://datasheet.ciiva.com/11795/0900766b80af73fd-11795509.pdf?src-supplier=Rs; ComponentLink3URL: https://datasheet.ciiva.com/18093/getdatasheetpartid-153000-18093088.pdf?src-supplier=Verical; ComponentLink3Description: https://datasheet.ciiva.com/18093/getdatasheetpartid-153000-18093088.pdf?src-supplier=Verical; ComponentLink4URL: https://datasheet.ciiva.com/41649/90770-41649573.pdf?src-supplier=Farnell; ComponentLink4Description: https://datasheet.ciiva.com/41649/90770-41649573.pdf?src-supplier=Farnell; ComponentLink5URL: https://datasheet.ciiva.com/6213/nfm21p-series-6213964.pdf?src-supplier=Digikey; ComponentLink5Description: https://datasheet.ciiva.com/6213/nfm21p-series-6213964.pdf?src-supplier=Digikey; ComponentLink6URL: https://datasheet.ciiva.com/1469/1852654-1469126.pdf?src-supplier=Element14; ComponentLink6Description: https://datasheet.ciiva.com/1469/1852654-1469126.pdf?src-supplier=Element14; ComponentLink7URL: https://datasheet.ciiva.com/1469/1852654-1469127.pdf?src-supplier=Element14; ComponentLink7Description: https://datasheet.ciiva.com/1469/1852654-1469127.pdf?src-supplier=Element14; ComponentLink8URL: https://datasheet.ciiva.com/6213/nfm21p-series-6213962.pdf?src-supplier=Digikey; ComponentLink8Description: https://datasheet.ciiva.com/6213/nfm21p-series-6213962.pdf?src-supplier=Digikey; ComponentLink9URL: https://datasheet.ciiva.com/6213/nfm21p-series-6213959.pdf?src-supplier=Digikey; ComponentLink9Description: https://datasheet.ciiva.com/6213/nfm21p-series-6213959.pdf?src-supplier=Digikey
footprint CAP_0805 - 4 PAD
pins: 1, 2, 3

## CAP_HF_1uF_0805-3PAD
designator C?, comment 1uF
Feed Through Capacitor, 1 Function(s), 10V, 4A, 3 Pin(s); Manufacturer: Murata; Manufacturer Part Number: NFM21PC105B1A3D; Value: 1F; Insulation Resistance-Min: 500MR; Channels: 1; Supplier: Mouser; Supplier Part Number: 81-NFM21PC105B1A3D; RoHS: Yes; Category: Ceramic Capacitors; Stock: 67484; Pricing: 1=0.17, 10=0.121, 50=0.121, 100=0.099, 1000=0.089, 10000=0.065 (USD); Mounting Technology: Surface Mount; Terminal Finish: Tin; Min Operating Temperature: -40°C; Max Operating Temperature: 85°C; JESD-609 Code: e3; Filter Type: FEED THROUGH CAPACITOR; Packaging: Tape and Reel; Current Rating: 4A; Voltage Rating: 10V; Length: 2mm; Width: 1.25mm; Height: 0.85mm; Reach SVHC Compliant: Yes; RoHS Compliant: Yes; ComponentLink1URL: https://psearch.en.murata.com:443/capacitor/product/NFM21PC105B1A3%23.pdf?src-supplier=IHS+Markit; ComponentLink1Description: https://psearch.en.murata.com:443/capacitor/product/NFM21PC105B1A3%23.pdf?src-supplier=IHS+Markit; ComponentLink2URL: https://datasheet.ciiva.com/11795/0900766b80af73fd-11795620.pdf?src-supplier=Rs; ComponentLink2Description: https://datasheet.ciiva.com/11795/0900766b80af73fd-11795620.pdf?src-supplier=Rs; ComponentLink3URL: https://datasheet.ciiva.com/39121/1871246-39121575.pdf?src-supplier=Jameco; ComponentLink3Description: https://datasheet.ciiva.com/39121/1871246-39121575.pdf?src-supplier=Jameco; ComponentLink4URL: https://datasheet.ciiva.com/18093/getdatasheetpartid-153229-18093115.pdf?src-supplier=Verical; ComponentLink4Description: https://datasheet.ciiva.com/18093/getdatasheetpartid-153229-18093115.pdf?src-supplier=Verical; ComponentLink5URL: https://datasheet.ciiva.com/26341/647524-da-01-en-smd-emi-filter-nfm21pc105b1a3d-1000st-26341296.pdf?src-supplier=Conrad; ComponentLink5Description: https://datasheet.ciiva.com/26341/647524-da-01-en-smd-emi-filter-nfm21pc105b1a3d-1000st-26341296.pdf?src-supplier=Conrad; ComponentLink6URL: https://datasheet.ciiva.com/1469/90770-1469124.pdf?src-supplier=Element14; ComponentLink6Description: https://datasheet.ciiva.com/1469/90770-1469124.pdf?src-supplier=Element14; ComponentLink7URL: https://datasheet.ciiva.com/1469/90770-1469125.pdf?src-supplier=Element14; ComponentLink7Description: https://datasheet.ciiva.com/1469/90770-1469125.pdf?src-supplier=Element14; ComponentLink8URL: https://datasheet.ciiva.com/6211/l0111s0111nfm21pc-6211097.pdf?src-supplier=Digikey; ComponentLink8Description: https://datasheet.ciiva.com/6211/l0111s0111nfm21pc-6211097.pdf?src-supplier=Digikey; ComponentLink9URL: https://datasheet.ciiva.com/6211/l0111s0111nfm21pc-6211094.pdf?src-supplier=Digikey; ComponentLink9Description: https://datasheet.ciiva.com/6211/l0111s0111nfm21pc-6211094.pdf?src-supplier=Digikey; ComponentLink10URL: https://datasheet.ciiva.com/6211/l0111s0111nfm21pc-6211099.pdf?src-supplier=Digikey; ComponentLink10Description: https://datasheet.ciiva.com/6211/l0111s0111nfm21pc-6211099.pdf?src-supplier=Digikey
footprint CAP_0805 - 4 PAD
pins: 1, 2, 3

## CAP_HF_100pF_0805_4PAD
designator C?, comment 100pF
Feed Through Capacitor, 1 Function(s), 100V, 0.5A, 4 Pin(s); Manufacturer: Kyocera AVX; Manufacturer Part Number: W2H11A1018AT1F; Supplier: Mouser; Supplier Part Number: 581-W2H11A1018AT1F; RoHS: Yes; Category: Ceramic Capacitors; Stock: 4314; Pricing: 1=0.63, 10=0.288, 50=0.288, 100=0.201, 1000=0.173, 10000=0.14 (USD); Terminal Finish: Nickel; JESD-609 Code: e3; Filter Type: FEED THROUGH CAPACITOR; Reach SVHC Compliant: Yes; RoHS Compliant: Yes; ComponentLink1URL: https://datasheet.ciiva.com:443/pdfs/VipMasterIC/IC/AVXC/AVXC-S-A0009187118/AVXC-S-A0009187118-1.pdf?src-supplier=IHS+Markit; ComponentLink1Description: https://datasheet.ciiva.com:443/pdfs/VipMasterIC/IC/AVXC/AVXC-S-A0009187118/AVXC-S-A0009187118-1.pdf?src-supplier=IHS+Markit; ComponentLink2URL: https://datasheet.ciiva.com/4932/w2h-w3h-4932056.pdf?src-supplier=Mouser; ComponentLink2Description: https://datasheet.ciiva.com/4932/w2h-w3h-4932056.pdf?src-supplier=Mouser
footprint CAP_0805 - 4 PAD
pins: 1, 2, 3

## CAP_NOT-MOUNTED_0402
designator C?, comment DNP  (no BOM)
Do Not Place this Capacitor 0402; Manufacturer: KEMET; Manufacturer Part Number: C0603C103K8RACTU; Dielectric Material: Ceramic; Capacitance: 10nF; Tolerance: 10%; Voltage Rating: 10V; Dielectric: X7R; Dissipation Factor: 5%; Case/Package: 0603; Supplier-1: Digikey; Supplier 1: Mouser; Manufacturer 1: KEMET; Manufacturer Part Number 1: C0603C103K8RACTU; RoHS: Yes; Category: Ceramic Capacitors; Stock 1: 6134; Pricing 1: 1=0.1, 10=0.034, 50=0.034, 100=0.02, 1000=0.016, 10000=0.011 (USD); Mount: Surface Mount; Case Code (Metric): 1608; Case Code (Imperial): 0603; Min Operating Temperature: -55°C; Max Operating Temperature: 125°C; Package Quantity: 1; Packaging: Tape and Reel; Voltage Rating (DC): 10V; Termination: SMD/SMT; Series: -; Construction: Flat; Length: 1.6mm; Width: 0.031inch; Height: 0.8mm; Thickness: 0.034inch; Lead Pitch: 0.7mm; Depth: 0.8mm; Reach SVHC Compliant: No; ComponentLink1URL: https://datasheet.ciiva.com/49516/1564916-49516523.pdf?src-supplier=Jameco; ComponentLink1Description: https://datasheet.ciiva.com/49516/1564916-49516523.pdf?src-supplier=Jameco; Supplier Part Number 1: 80-C0603C103K8R
footprint CAP_0402
pins: 1, 2

## CAP_NOT-MOUNTED_0603
designator C?, comment DNP  (no BOM)
Do Not Place this Capacitor 0603; Manufacturer: KEMET; Manufacturer Part Number: C0603C103K8RACTU; Dielectric Material: Ceramic; Capacitance: 10nF; Tolerance: 10%; Voltage Rating: 10V; Dielectric: X7R; Dissipation Factor: 5%; Case/Package: 0603; Supplier-1: Digikey; Supplier 1: Mouser; Manufacturer 1: KEMET; Manufacturer Part Number 1: C0603C103K8RACTU; RoHS: Yes; Category: Ceramic Capacitors; Stock 1: 6134; Pricing 1: 1=0.1, 10=0.034, 50=0.034, 100=0.02, 1000=0.016, 10000=0.011 (USD); Mount: Surface Mount; Case Code (Metric): 1608; Case Code (Imperial): 0603; Min Operating Temperature: -55°C; Max Operating Temperature: 125°C; Package Quantity: 1; Packaging: Tape and Reel; Voltage Rating (DC): 10V; Termination: SMD/SMT; Series: -; Construction: Flat; Length: 1.6mm; Width: 0.031inch; Height: 0.8mm; Thickness: 0.034inch; Lead Pitch: 0.7mm; Depth: 0.8mm; Reach SVHC Compliant: No; ComponentLink1URL: https://datasheet.ciiva.com/49516/1564916-49516523.pdf?src-supplier=Jameco; ComponentLink1Description: https://datasheet.ciiva.com/49516/1564916-49516523.pdf?src-supplier=Jameco; Supplier Part Number 1: 80-C0603C103K8R
footprint CAP_0603
pins: 1, 2

## CAP_NOT-MOUNTED_0805
designator C?, comment DNP  (no BOM)
Do Not Place this Capacitor 0805; Manufacturer: KEMET; Manufacturer Part Number: C0603C103K8RACTU; Dielectric Material: Ceramic; Capacitance: 10nF; Tolerance: 10%; Voltage Rating: 10V; Dielectric: X7R; Dissipation Factor: 5%; Case/Package: 0603; Supplier-1: Digikey; Supplier 1: Mouser; Manufacturer 1: KEMET; Manufacturer Part Number 1: C0603C103K8RACTU; RoHS: Yes; Category: Ceramic Capacitors; Stock 1: 6134; Pricing 1: 1=0.1, 10=0.034, 50=0.034, 100=0.02, 1000=0.016, 10000=0.011 (USD); Mount: Surface Mount; Case Code (Metric): 1608; Case Code (Imperial): 0603; Min Operating Temperature: -55°C; Max Operating Temperature: 125°C; Package Quantity: 1; Packaging: Tape and Reel; Voltage Rating (DC): 10V; Termination: SMD/SMT; Series: -; Construction: Flat; Length: 1.6mm; Width: 0.031inch; Height: 0.8mm; Thickness: 0.034inch; Lead Pitch: 0.7mm; Depth: 0.8mm; Reach SVHC Compliant: No; ComponentLink1URL: https://datasheet.ciiva.com/49516/1564916-49516523.pdf?src-supplier=Jameco; ComponentLink1Description: https://datasheet.ciiva.com/49516/1564916-49516523.pdf?src-supplier=Jameco; Supplier Part Number 1: 80-C0603C103K8R
footprint CAP_0805
pins: 1, 2

## CAP_NOT-MOUNTED_1206
designator C?, comment DNP  (no BOM)
Do Not Place this Capacitor 1206; Manufacturer: KEMET; Manufacturer Part Number: C0603C103K8RACTU; Dielectric Material: Ceramic; Capacitance: 10nF; Tolerance: 10%; Voltage Rating: 10V; Dielectric: X7R; Dissipation Factor: 5%; Case/Package: 0603; Supplier-1: Digikey; Supplier 1: Mouser; Manufacturer 1: KEMET; Manufacturer Part Number 1: C0603C103K8RACTU; RoHS: Yes; Category: Ceramic Capacitors; Stock 1: 6134; Pricing 1: 1=0.1, 10=0.034, 50=0.034, 100=0.02, 1000=0.016, 10000=0.011 (USD); Mount: Surface Mount; Case Code (Metric): 1608; Case Code (Imperial): 0603; Min Operating Temperature: -55°C; Max Operating Temperature: 125°C; Package Quantity: 1; Packaging: Tape and Reel; Voltage Rating (DC): 10V; Termination: SMD/SMT; Series: -; Construction: Flat; Length: 1.6mm; Width: 0.031inch; Height: 0.8mm; Thickness: 0.034inch; Lead Pitch: 0.7mm; Depth: 0.8mm; Reach SVHC Compliant: No; ComponentLink1URL: https://datasheet.ciiva.com/49516/1564916-49516523.pdf?src-supplier=Jameco; ComponentLink1Description: https://datasheet.ciiva.com/49516/1564916-49516523.pdf?src-supplier=Jameco; Supplier Part Number 1: 80-C0603C103K8R
footprint CAP_1206
pins: 1, 2

## CAP_NOT-MOUNTED_1210
designator C?, comment DNP  (no BOM)
Do Not Place this Capacitor 1210; Manufacturer: KEMET; Manufacturer Part Number: C0603C103K8RACTU; Dielectric Material: Ceramic; Capacitance: 10nF; Tolerance: 10%; Voltage Rating: 10V; Dielectric: X7R; Dissipation Factor: 5%; Case/Package: 0603; Supplier-1: Digikey; Supplier 1: Mouser; Manufacturer 1: KEMET; Manufacturer Part Number 1: C0603C103K8RACTU; RoHS: Yes; Category: Ceramic Capacitors; Stock 1: 6134; Pricing 1: 1=0.1, 10=0.034, 50=0.034, 100=0.02, 1000=0.016, 10000=0.011 (USD); Mount: Surface Mount; Case Code (Metric): 1608; Case Code (Imperial): 0603; Min Operating Temperature: -55°C; Max Operating Temperature: 125°C; Package Quantity: 1; Packaging: Tape and Reel; Voltage Rating (DC): 10V; Termination: SMD/SMT; Series: -; Construction: Flat; Length: 1.6mm; Width: 0.031inch; Height: 0.8mm; Thickness: 0.034inch; Lead Pitch: 0.7mm; Depth: 0.8mm; Reach SVHC Compliant: No; ComponentLink1URL: https://datasheet.ciiva.com/49516/1564916-49516523.pdf?src-supplier=Jameco; ComponentLink1Description: https://datasheet.ciiva.com/49516/1564916-49516523.pdf?src-supplier=Jameco; Supplier Part Number 1: 80-C0603C103K8R
footprint CAP_1210
pins: 1, 2

## COM_MSIM_7POS_CUI
designator J?, comment MSIM-1-A
Memory Card Connectors 7 Positions, Push In, Auto Eject Out, SMT, 1.37 mm Height Above Board,; ComponentLink1Description: LCSC Link; ComponentLink1URL: https://www.lcsc.com/product-detail/SIM-Card-Connectors_SHOU-HAN-MICRO-SIM-7P-H1-35_C7529381.html
footprint CON_MSIM_7POS (MSIM-1-A)
pins: 1 VCC, 2 RST, 3 CLK, 5 GND, 6 VPP, 7 I/O, 8 CD, 9 GND

## CON-M5 Display
designator J?
footprint M5 Display Connector
pins: 1 SDA, 2 SCL, 3 VDD, 4 VSS, 5 VLCD, A, K

## CON_FPC_50PIN_0.5mm
designator J?
footprint 405 Series 0.5mm FPC 50pin TOYO
part A pins: 1 +5V, 2 +5V, 3 GND, 4 GND, 5 GND, 6 AD7, 7 AD6, 8 AD5, 9 AD3, 10 AD1, 11 +3.3V_O, 12 SPK, 13 SD_CD, 14 SD_CK, 15 SD_D3, 16 SD_D2, 17 SD_D1, 18 SD_D0, 19 PWM0, 20 PWM1, 21 P3.3, 22 P3.2, 23 P3.1/EX1, 24 P3.0/EX0, 25 P2.7
part B pins: 26 P2.6, 27 P2.5, 28 P2.4, 29 P2.3, 30 P2.2, 31 P2.1, 32 P2.0, 33 P1.7, 34 P1.6, 35 P1.5, 36 P1.4, 37 P1.3, 38 P1.2, 39 P1.1, 40 P1.0, 41 UART4_TXD, 42 UART4_RXD, 43 UART5_TXD, 44 UART5_RXD, 45 P0.0, 46 P0.1, 47 CAN_TX, 48 CAN_RX, 49 UART2_TXD, 50 UART2_RXD

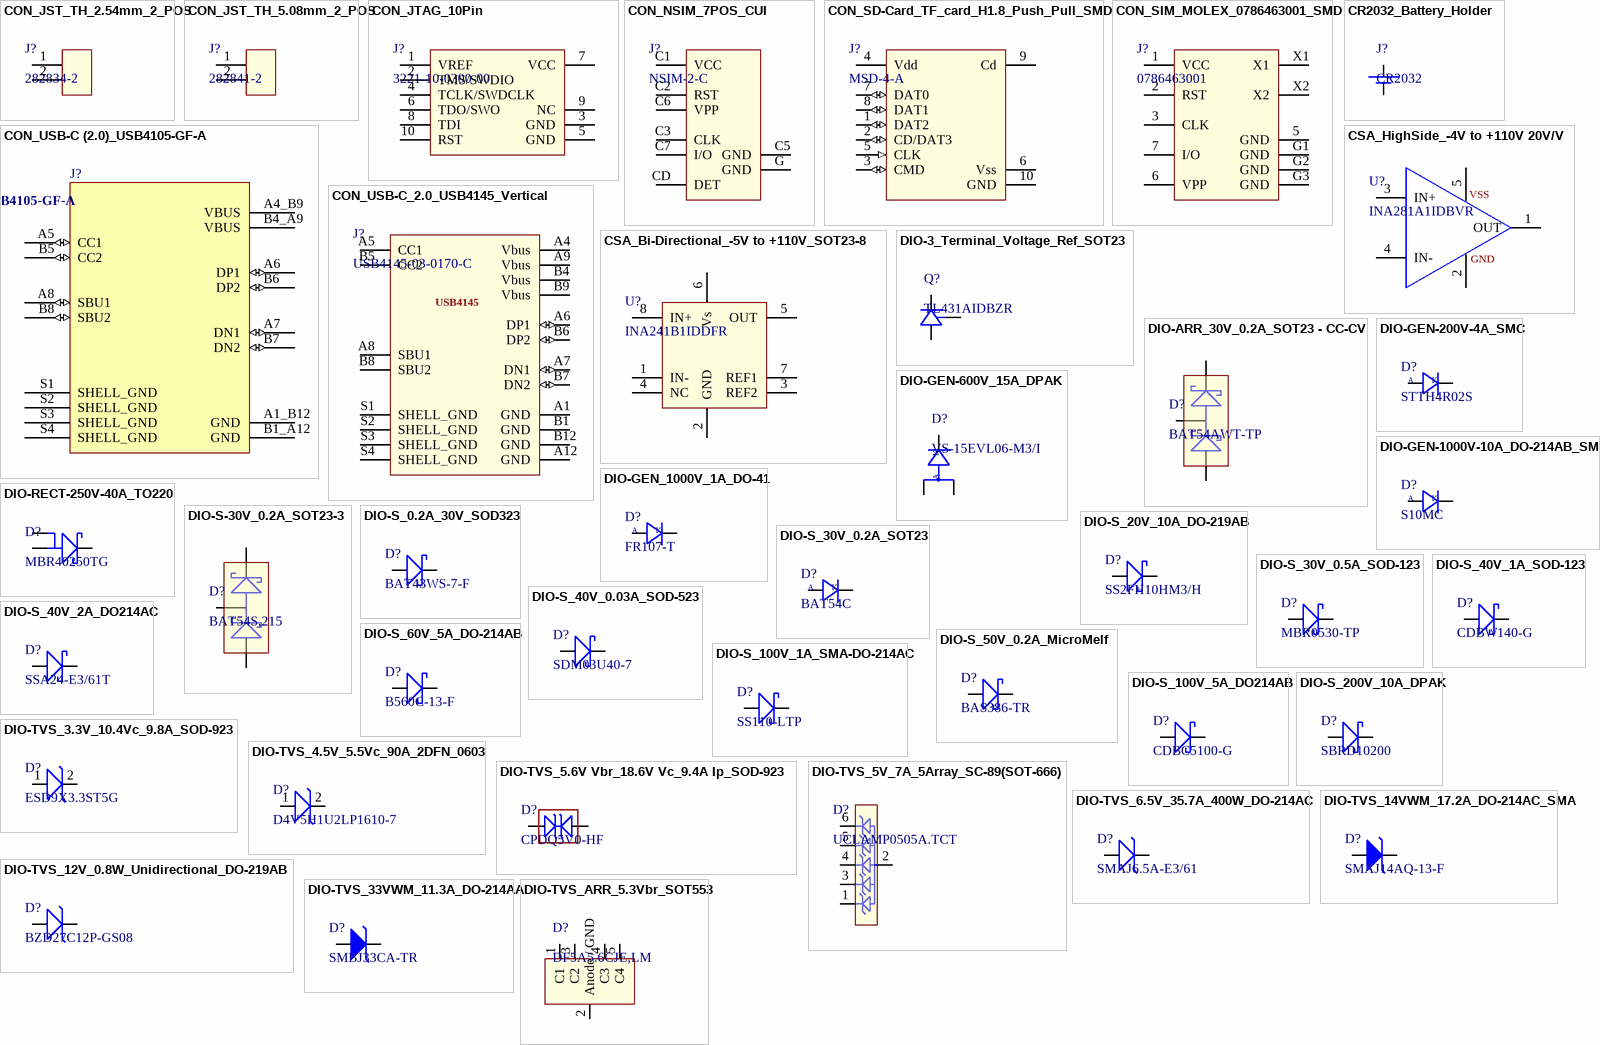
[diagram p4: symbols CON_JST_TH_2.54mm_2_POS to DIO-TVS_ARR_5.3Vbr_SOT553]

## CON_JST_TH_2.54mm_2_POS
designator J?, comment 282834-2
Modular Terminal Block, 10A, 1 Row(s), 1 Deck(s); Manufacturer: TE Connectivity; Fastening Method: SCREW; Number of Decks: 1; Number of Ways: 2; Voltage Rating: 150V; Wire/Cable Gauge: 16AWG; Safety Approval: UL; Supplier: Farnell; Supplier Part Number: 2112482; Manufacturer Part Number: 282834-2; RoHS: Yes; Category: Terminal Blocks; Stock: 13002; Pricing: 1=1.44, 10=1.21, 100=0.967, 500=0.814, 1000=0.78, 2500=0.747 (EUR); Mounting Technology: Board; Number of Rows: 1; Current Rating: 10A; Terminal and Terminal Block Type: MODULAR TERMINAL BLOCK; RoHS Compliant: Yes; Reach SVHC Compliant: No; ComponentLink1URL: https://datasheet.ciiva.com:443/pdfs/VipMasterIC/IC/TYEL/TYEL-S-A0008743874/TYEL-S-A0008710120-1.pdf?src-supplier=IHS+Markit; ComponentLink1Description: https://datasheet.ciiva.com:443/pdfs/VipMasterIC/IC/TYEL/TYEL-S-A0008743874/TYEL-S-A0008710120-1.pdf?src-supplier=IHS+Markit; ComponentLink2URL: https://datasheet.ciiva.com/16386/282834-2-16386363.pdf?src-supplier=Future+Electronics; ComponentLink2Description: https://datasheet.ciiva.com/16386/282834-2-16386363.pdf?src-supplier=Future+Electronics; ComponentLink3URL: https://datasheet.ciiva.com/11758/0900766b80e7dc96-11758675.pdf?src-supplier=Rs; ComponentLink3Description: https://datasheet.ciiva.com/11758/0900766b80e7dc96-11758675.pdf?src-supplier=Rs; ComponentLink4URL: https://datasheet.ciiva.com/3141/eng-cs-1308389-eurostyle-terminal-blocks-0607-3141115.pdf?src-supplier=Avnet; ComponentLink4Description: https://datasheet.ciiva.com/3141/eng-cs-1308389-eurostyle-terminal-blocks-0607-3141115.pdf?src-supplier=Avnet; ComponentLink5URL: https://datasheet.ciiva.com/15169/getdatasheetpartid-155864-15169558.pdf?src-supplier=Verical; ComponentLink5Description: https://datasheet.ciiva.com/15169/getdatasheetpartid-155864-15169558.pdf?src-supplier=Verical; ComponentLink6URL: https://datasheet.ciiva.com/30166/eng-cs-1308389-eurostyle-terminal-blocks-0607-30166974.pdf?src-supplier=Onlinecomponents.com; ComponentLink6Description: https://datasheet.ciiva.com/30166/eng-cs-1308389-eurostyle-terminal-blocks-0607-30166974.pdf?src-supplier=Onlinecomponents.com; ComponentLink7URL: https://datasheet.ciiva.com/14609/70086732-14609670.pdf?src-supplier=Allied+Electronics; ComponentLink7Description: https://datasheet.ciiva.com/14609/70086732-14609670.pdf?src-supplier=Allied+Electronics; ComponentLink8URL: https://datasheet.ciiva.com/823/eng-cd-282834-c1-823453.pdf?src-supplier=Digikey; ComponentLink8Description: https://datasheet.ciiva.com/823/eng-cd-282834-c1-823453.pdf?src-supplier=Digikey
footprint CON_JST_2POS_2.54mm
pins: 1, 2